# Altium footprint library TJA1050T_CM_118 v1.PCBLIB: 1 footprints
Each footprint in its own frame and in the unit in brackets; x right, y up, seen from the top. Pads: shape width x height; smd on the part's side, far side on the other; paste and mask are expansions set on the pad; w line width, h text height; cw(c..) or ccw(c..) is an arc to the next point about the centre after c.
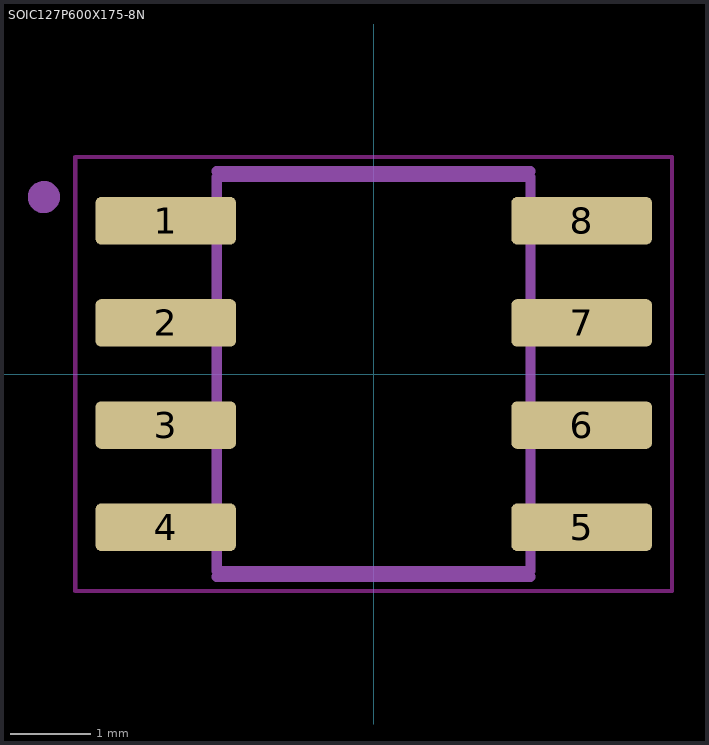
[diagram p0: the footprint, top view; thin cyan lines are the x and y axes]

## SOIC127P600X175-8N [mil]
pads (8):
  rrect25% 68.9x23.23 smd: 1(-101.77,75) 2(-101.77,25) 3(-101.77,-25) 4(-101.77,-75) 5(101.77,-75) 6(101.77,-25) 7(101.77,25) 8(101.77,75)
Top keep-out:
  lines w1.97: -146.06,-106.3 146.06,-106.3 146.06,106.3 -146.06,106.3 -146.06,-106.3
tDocu:
  circle w7.87: c-161.42,86.61 r3.94
  lines w5: -76.77,-96.46 76.77,-96.46 76.77,96.46 -76.77,96.46 -76.77,-96.46
tPlace:
  circle w7.87: c-161.42,86.61 r3.94
  lines w5: -76.77,-99.21 76.77,-99.21 ; -76.77,99.21 76.77,99.21